# Altium schematic symbol library A3PE600-484.Schlib: 1 symbol
Pins are listed as number, name and electrical type; pins without a type are passive.

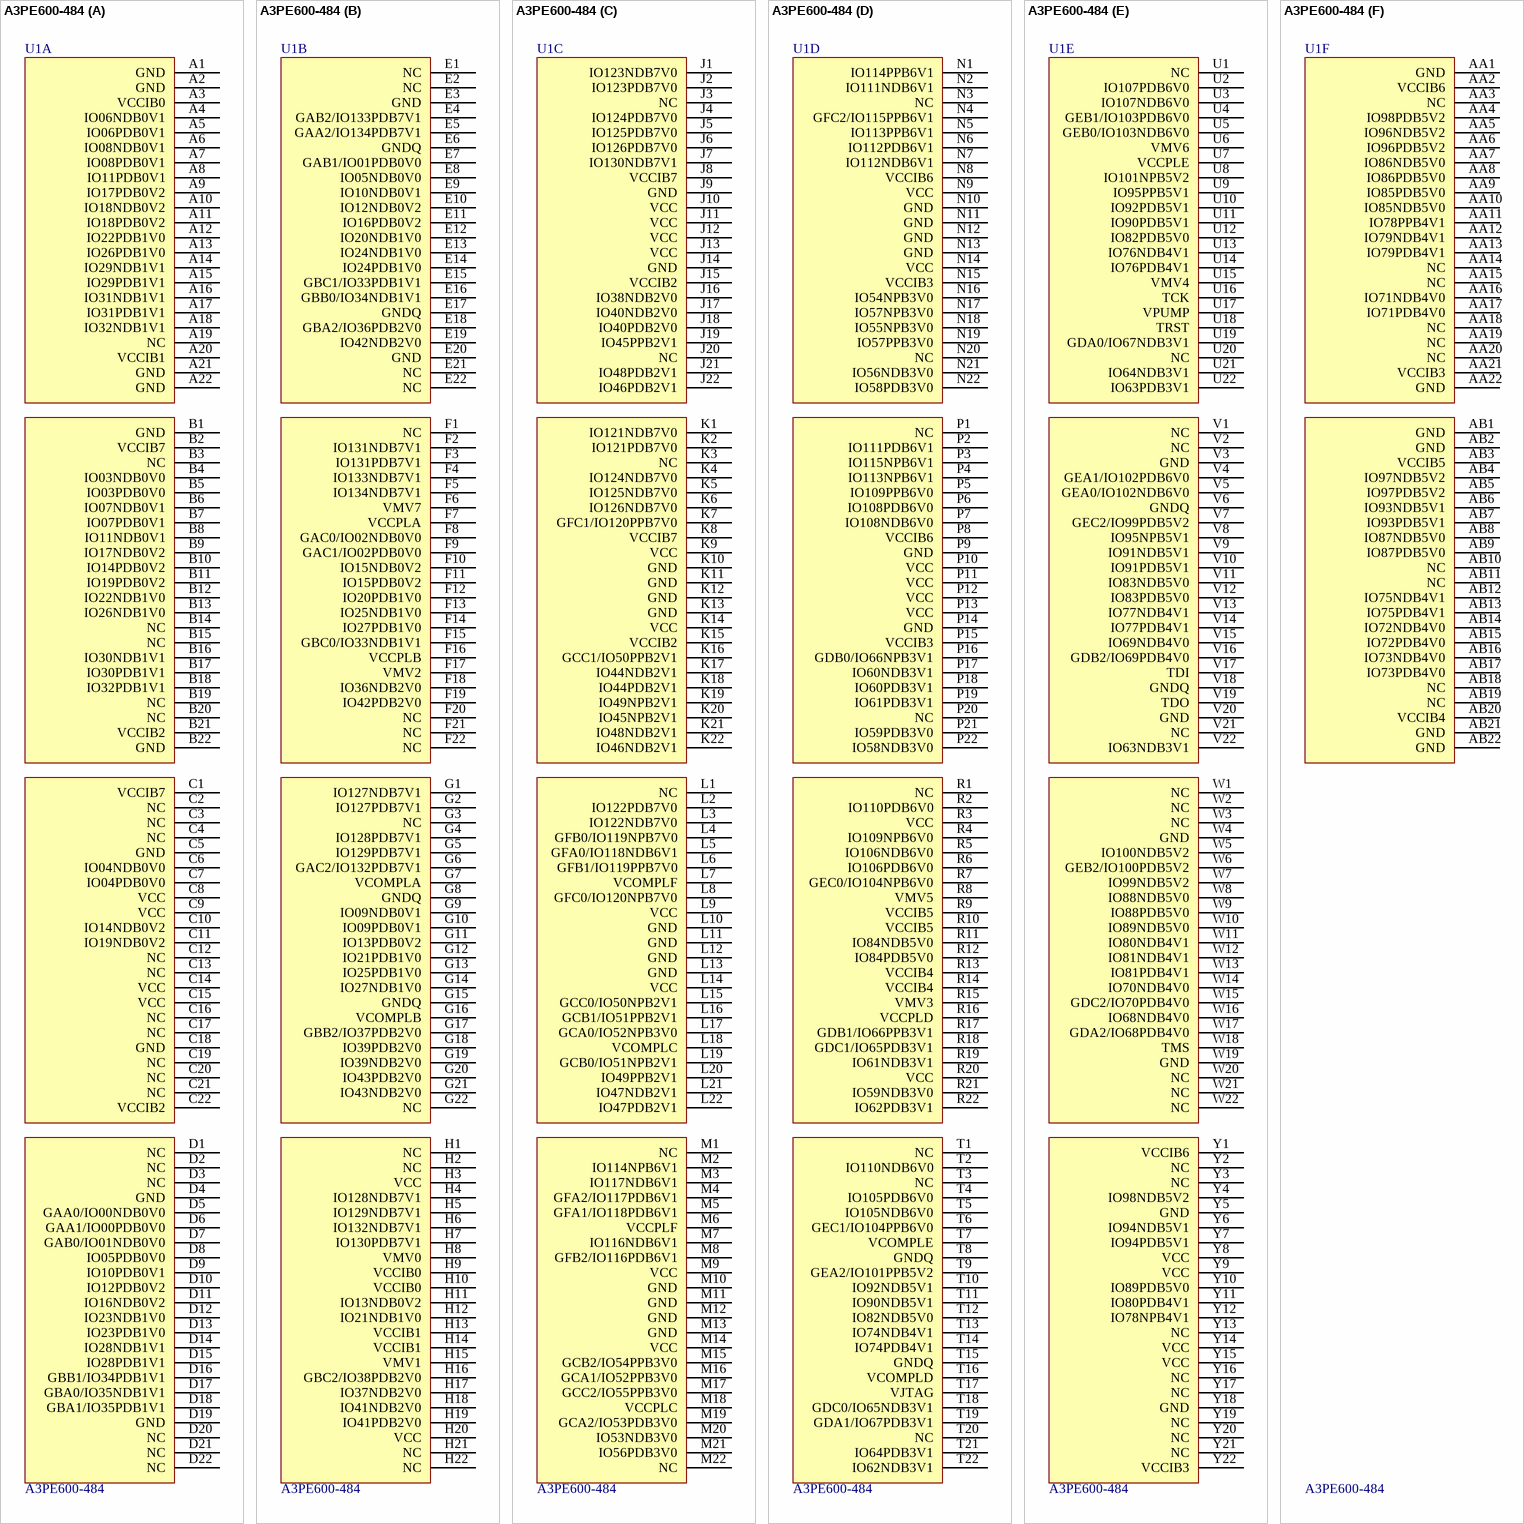
[diagram p0: symbol A3PE600-484]

## A3PE600-484
designator U1
ProASIC3E Flash FPGA; Назначение: FPGA; Наименование: A3PE600
footprint FBGA-484
part A pins: A1 GND, A2 GND, A3 VCCIB0, A4 IO06NDB0V1, A5 IO06PDB0V1, A6 IO08NDB0V1, A7 IO08PDB0V1, A8 IO11PDB0V1, A9 IO17PDB0V2, A10 IO18NDB0V2, A11 IO18PDB0V2, A12 IO22PDB1V0, A13 IO26PDB1V0, A14 IO29NDB1V1, A15 IO29PDB1V1, A16 IO31NDB1V1, A17 IO31PDB1V1, A18 IO32NDB1V1, A19 NC, A20 VCCIB1, A21 GND, A22 GND, B1 GND, B2 VCCIB7, B3 NC, B4 IO03NDB0V0, B5 IO03PDB0V0, B6 IO07NDB0V1, B7 IO07PDB0V1, B8 IO11NDB0V1, B9 IO17NDB0V2, B10 IO14PDB0V2, B11 IO19PDB0V2, B12 IO22NDB1V0, B13 IO26NDB1V0, B14 NC, B15 NC, B16 IO30NDB1V1, B17 IO30PDB1V1, B18 IO32PDB1V1, B19 NC, B20 NC, B21 VCCIB2, B22 GND, C1 VCCIB7, C2 NC, C3 NC, C4 NC, C5 GND, C6 IO04NDB0V0, C7 IO04PDB0V0, C8 VCC, C9 VCC, C10 IO14NDB0V2, C11 IO19NDB0V2, C12 NC, C13 NC, C14 VCC, C15 VCC, C16 NC, C17 NC, C18 GND, C19 NC, C20 NC, C21 NC, C22 VCCIB2, D1 NC, D2 NC, D3 NC, D4 GND, D5 GAA0/IO00NDB0V0, D6 GAA1/IO00PDB0V0, D7 GAB0/IO01NDB0V0, D8 IO05PDB0V0, D9 IO10PDB0V1, D10 IO12PDB0V2, D11 IO16NDB0V2, D12 IO23NDB1V0, D13 IO23PDB1V0, D14 IO28NDB1V1, D15 IO28PDB1V1, D16 GBB1/IO34PDB1V1, D17 GBA0/IO35NDB1V1, D18 GBA1/IO35PDB1V1, D19 GND, D20 NC, D21 NC, D22 NC
part B pins: E1 NC, E2 NC, E3 GND, E4 GAB2/IO133PDB7V1, E5 GAA2/IO134PDB7V1, E6 GNDQ, E7 GAB1/IO01PDB0V0, E8 IO05NDB0V0, E9 IO10NDB0V1, E10 IO12NDB0V2, E11 IO16PDB0V2, E12 IO20NDB1V0, E13 IO24NDB1V0, E14 IO24PDB1V0, E15 GBC1/IO33PDB1V1, E16 GBB0/IO34NDB1V1, E17 GNDQ, E18 GBA2/IO36PDB2V0, E19 IO42NDB2V0, E20 GND, E21 NC, E22 NC, F1 NC, F2 IO131NDB7V1, F3 IO131PDB7V1, F4 IO133NDB7V1, F5 IO134NDB7V1, F6 VMV7, F7 VCCPLA, F8 GAC0/IO02NDB0V0, F9 GAC1/IO02PDB0V0, F10 IO15NDB0V2, F11 IO15PDB0V2, F12 IO20PDB1V0, F13 IO25NDB1V0, F14 IO27PDB1V0, F15 GBC0/IO33NDB1V1, F16 VCCPLB, F17 VMV2, F18 IO36NDB2V0, F19 IO42PDB2V0, F20 NC, F21 NC, F22 NC, G1 IO127NDB7V1, G2 IO127PDB7V1, G3 NC, G4 IO128PDB7V1, G5 IO129PDB7V1, G6 GAC2/IO132PDB7V1, G7 VCOMPLA, G8 GNDQ, G9 IO09NDB0V1, G10 IO09PDB0V1, G11 IO13PDB0V2, G12 IO21PDB1V0, G13 IO25PDB1V0, G14 IO27NDB1V0, G15 GNDQ, G16 VCOMPLB, G17 GBB2/IO37PDB2V0, G18 IO39PDB2V0, G19 IO39NDB2V0, G20 IO43PDB2V0, G21 IO43NDB2V0, G22 NC, H1 NC, H2 NC, H3 VCC, H4 IO128NDB7V1, H5 IO129NDB7V1, H6 IO132NDB7V1, H7 IO130PDB7V1, H8 VMV0, H9 VCCIB0, H10 VCCIB0, H11 IO13NDB0V2, H12 IO21NDB1V0, H13 VCCIB1, H14 VCCIB1, H15 VMV1, H16 GBC2/IO38PDB2V0, H17 IO37NDB2V0, H18 IO41NDB2V0, H19 IO41PDB2V0, H20 VCC, H21 NC, H22 NC
part C pins: J1 IO123NDB7V0, J2 IO123PDB7V0, J3 NC, J4 IO124PDB7V0, J5 IO125PDB7V0, J6 IO126PDB7V0, J7 IO130NDB7V1, J8 VCCIB7, J9 GND, J10 VCC, J11 VCC, J12 VCC, J13 VCC, J14 GND, J15 VCCIB2, J16 IO38NDB2V0, J17 IO40NDB2V0, J18 IO40PDB2V0, J19 IO45PPB2V1, J20 NC, J21 IO48PDB2V1, J22 IO46PDB2V1, K1 IO121NDB7V0, K2 IO121PDB7V0, K3 NC, K4 IO124NDB7V0, K5 IO125NDB7V0, K6 IO126NDB7V0, K7 GFC1/IO120PPB7V0, K8 VCCIB7, K9 VCC, K10 GND, K11 GND, K12 GND, K13 GND, K14 VCC, K15 VCCIB2, K16 GCC1/IO50PPB2V1, K17 IO44NDB2V1, K18 IO44PDB2V1, K19 IO49NPB2V1, K20 IO45NPB2V1, K21 IO48NDB2V1, K22 IO46NDB2V1, L1 NC, L2 IO122PDB7V0, L3 IO122NDB7V0, L4 GFB0/IO119NPB7V0, L5 GFA0/IO118NDB6V1, L6 GFB1/IO119PPB7V0, L7 VCOMPLF, L8 GFC0/IO120NPB7V0, L9 VCC, L10 GND, L11 GND, L12 GND, L13 GND, L14 VCC, L15 GCC0/IO50NPB2V1, L16 GCB1/IO51PPB2V1, L17 GCA0/IO52NPB3V0, L18 VCOMPLC, L19 GCB0/IO51NPB2V1, L20 IO49PPB2V1, L21 IO47NDB2V1, L22 IO47PDB2V1, M1 NC, M2 IO114NPB6V1, M3 IO117NDB6V1, M4 GFA2/IO117PDB6V1, M5 GFA1/IO118PDB6V1, M6 VCCPLF, M7 IO116NDB6V1, M8 GFB2/IO116PDB6V1, M9 VCC, M10 GND, M11 GND, M12 GND, M13 GND, M14 VCC, M15 GCB2/IO54PPB3V0, M16 GCA1/IO52PPB3V0, M17 GCC2/IO55PPB3V0, M18 VCCPLC, M19 GCA2/IO53PDB3V0, M20 IO53NDB3V0, M21 IO56PDB3V0, M22 NC
part D pins: N1 IO114PPB6V1, N2 IO111NDB6V1, N3 NC, N4 GFC2/IO115PPB6V1, N5 IO113PPB6V1, N6 IO112PDB6V1, N7 IO112NDB6V1, N8 VCCIB6, N9 VCC, N10 GND, N11 GND, N12 GND, N13 GND, N14 VCC, N15 VCCIB3, N16 IO54NPB3V0, N17 IO57NPB3V0, N18 IO55NPB3V0, N19 IO57PPB3V0, N20 NC, N21 IO56NDB3V0, N22 IO58PDB3V0, P1 NC, P2 IO111PDB6V1, P3 IO115NPB6V1, P4 IO113NPB6V1, P5 IO109PPB6V0, P6 IO108PDB6V0, P7 IO108NDB6V0, P8 VCCIB6, P9 GND, P10 VCC, P11 VCC, P12 VCC, P13 VCC, P14 GND, P15 VCCIB3, P16 GDB0/IO66NPB3V1, P17 IO60NDB3V1, P18 IO60PDB3V1, P19 IO61PDB3V1, P20 NC, P21 IO59PDB3V0, P22 IO58NDB3V0, R1 NC, R2 IO110PDB6V0, R3 VCC, R4 IO109NPB6V0, R5 IO106NDB6V0, R6 IO106PDB6V0, R7 GEC0/IO104NPB6V0, R8 VMV5, R9 VCCIB5, R10 VCCIB5, R11 IO84NDB5V0, R12 IO84PDB5V0, R13 VCCIB4, R14 VCCIB4, R15 VMV3, R16 VCCPLD, R17 GDB1/IO66PPB3V1, R18 GDC1/IO65PDB3V1, R19 IO61NDB3V1, R20 VCC, R21 IO59NDB3V0, R22 IO62PDB3V1, T1 NC, T2 IO110NDB6V0, T3 NC, T4 IO105PDB6V0, T5 IO105NDB6V0, T6 GEC1/IO104PPB6V0, T7 VCOMPLE, T8 GNDQ, T9 GEA2/IO101PPB5V2, T10 IO92NDB5V1, T11 IO90NDB5V1, T12 IO82NDB5V0, T13 IO74NDB4V1, T14 IO74PDB4V1, T15 GNDQ, T16 VCOMPLD, T17 VJTAG, T18 GDC0/IO65NDB3V1, T19 GDA1/IO67PDB3V1, T20 NC, T21 IO64PDB3V1, T22 IO62NDB3V1
part E pins: U1 NC, U2 IO107PDB6V0, U3 IO107NDB6V0, U4 GEB1/IO103PDB6V0, U5 GEB0/IO103NDB6V0, U6 VMV6, U7 VCCPLE, U8 IO101NPB5V2, U9 IO95PPB5V1, U10 IO92PDB5V1, U11 IO90PDB5V1, U12 IO82PDB5V0, U13 IO76NDB4V1, U14 IO76PDB4V1, U15 VMV4, U16 TCK, U17 VPUMP, U18 TRST, U19 GDA0/IO67NDB3V1, U20 NC, U21 IO64NDB3V1, U22 IO63PDB3V1, V1 NC, V2 NC, V3 GND, V4 GEA1/IO102PDB6V0, V5 GEA0/IO102NDB6V0, V6 GNDQ, V7 GEC2/IO99PDB5V2, V8 IO95NPB5V1, V9 IO91NDB5V1, V10 IO91PDB5V1, V11 IO83NDB5V0, V12 IO83PDB5V0, V13 IO77NDB4V1, V14 IO77PDB4V1, V15 IO69NDB4V0, V16 GDB2/IO69PDB4V0, V17 TDI, V18 GNDQ, V19 TDO, V20 GND, V21 NC, V22 IO63NDB3V1, W1 NC, W2 NC, W3 NC, W4 GND, W5 IO100NDB5V2, W6 GEB2/IO100PDB5V2, W7 IO99NDB5V2, W8 IO88NDB5V0, W9 IO88PDB5V0, W10 IO89NDB5V0, W11 IO80NDB4V1, W12 IO81NDB4V1, W13 IO81PDB4V1, W14 IO70NDB4V0, W15 GDC2/IO70PDB4V0, W16 IO68NDB4V0, W17 GDA2/IO68PDB4V0, W18 TMS, W19 GND, W20 NC, W21 NC, W22 NC, Y1 VCCIB6, Y2 NC, Y3 NC, Y4 IO98NDB5V2, Y5 GND, Y6 IO94NDB5V1, Y7 IO94PDB5V1, Y8 VCC, Y9 VCC, Y10 IO89PDB5V0, Y11 IO80PDB4V1, Y12 IO78NPB4V1, Y13 NC, Y14 VCC, Y15 VCC, Y16 NC, Y17 NC, Y18 GND, Y19 NC, Y20 NC, Y21 NC, Y22 VCCIB3
part F pins: AA1 GND, AA2 VCCIB6, AA3 NC, AA4 IO98PDB5V2, AA5 IO96NDB5V2, AA6 IO96PDB5V2, AA7 IO86NDB5V0, AA8 IO86PDB5V0, AA9 IO85PDB5V0, AA10 IO85NDB5V0, AA11 IO78PPB4V1, AA12 IO79NDB4V1, AA13 IO79PDB4V1, AA14 NC, AA15 NC, AA16 IO71NDB4V0, AA17 IO71PDB4V0, AA18 NC, AA19 NC, AA20 NC, AA21 VCCIB3, AA22 GND, AB1 GND, AB2 GND, AB3 VCCIB5, AB4 IO97NDB5V2, AB5 IO97PDB5V2, AB6 IO93NDB5V1, AB7 IO93PDB5V1, AB8 IO87NDB5V0, AB9 IO87PDB5V0, AB10 NC, AB11 NC, AB12 IO75NDB4V1, AB13 IO75PDB4V1, AB14 IO72NDB4V0, AB15 IO72PDB4V0, AB16 IO73NDB4V0, AB17 IO73PDB4V0, AB18 NC, AB19 NC, AB20 VCCIB4, AB21 GND, AB22 GND